# Altium schematic symbol library 电池座.SchLib: 1 symbol
Pins are listed as number, name and electrical type; pins without a type are passive.

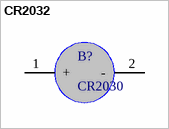
[diagram p0: symbol CR2032]

## CR2032
designator B?, comment CR2030
footprint CR2032
pins: 1 +, 2 -